# EAGLE library part AUIRS21811S (library International_Rectifier_By_element14_Batch_1)
HIGH AND LOW SIDE DRIVER
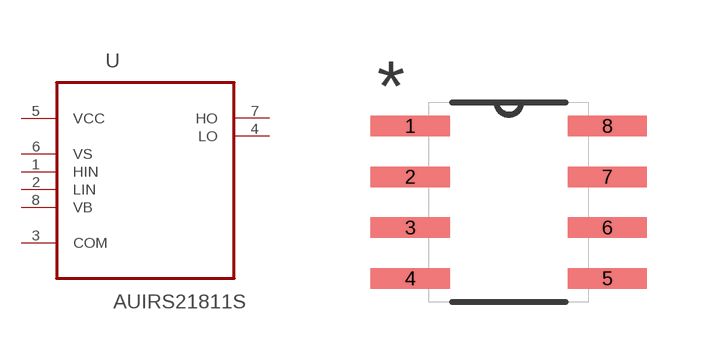
[diagram p13: symbol with the pads of SOIC127P600X175-8N; footprint SOIC127P600X175-8N]

Designator prefix U

## AUIRS21811S (MPN: AUIRS21811S; OC_FARNELL: 1866056; OC_NEWARK: 39T4038; PACKAGE: SOIC-8; SUPPLIER: INTERNATIONAL RECTIFIER)  [SOIC127P600X175-8N]
1  HIN  in
2  LIN  in
3  COM  pas
4  LO  out
5  VCC  pwr
6  VS  in
7  HO  out
8  VB  in

## Footprint SOIC127P600X175-8N (pad centres in mm)
smd 1.981 x 0.508: 1 -2.464,1.905; 2 -2.464,0.635; 3 -2.464,-0.635; 4 -2.464,-1.905; 5 2.464,-1.905; 6 2.464,-0.635; 7 2.464,0.635; 8 2.464,1.905